# EAGLE library part SN74LVC2G38 (library 74LV)
DUAL 2-INPUT NAND GATE OPEN-DRAIN OUTPUTS
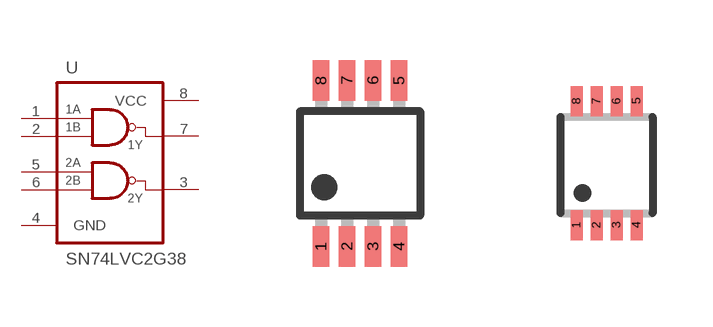
[diagram p4: symbol with the pads of SM8-DCT; footprints SM8-DCT, US8-DCU]

Designator prefix U

## SN74LVC2G38DCT  [SM8-DCT]
1  1A  in
2  1B  in
3  2Y  out
4  GND  pwr
5  2A  in
6  2B  in
7  1Y  out
8  VCC  pwr

## SN74LVC2G38DCU  [US8-DCU]
Pads as for SM8-DCT

## Footprint SM8-DCT (pad centres in mm)
SM8 - DCT 0.65 mm pitch
smd 0.406 x 1.016: 1 -0.975,-2.075; 2 -0.325,-2.075; 3 0.325,-2.075; 4 0.975,-2.075; 5 0.975,2.075; 6 0.325,2.075; 7 -0.325,2.075; 8 -0.975,2.075

## Footprint US8-DCU (pad centres in mm)
US8 - DCU 0.50 mm pitch
smd 0.3 x 0.75: 1 -0.75,-1.5; 2 -0.25,-1.5; 3 0.25,-1.5; 4 0.75,-1.5; 5 0.75,1.6; 6 0.25,1.6; 7 -0.25,1.6; 8 -0.75,1.6